# Altium integrated library Motorola Wideband Amplifier.IntLib: 2 symbols
Pins are listed as number, name and electrical type; pins without a type are passive.

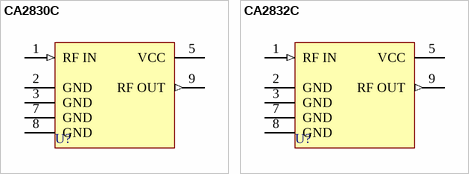
[diagram p0: symbols CA2830C to CA2832C]

## CA2830C
designator U?
Wideband Linear Amplifier; Note: Pins 4 and 6 are absent; Published: 28-Feb-2003; DatasheetVersion: 1997, Rev. 1; PackageVersion: 1994; PackageReference: 714F-03; Publisher: Altium Limited; PackageDescription: Rectangular Flange Mount, Thru-Hole; 9 Leads (2 Absent); Pitch 2.54 mm; ComponentLink1Description: Manufacturer Link; ComponentLink1URL: http://www.freescale.com/webapp/sps/site/homepage.jsp?nodeId=014359
footprint 714F-03 (Rectangular Flange Mount, Thru-Hole; 9 Leads (2 Absent); Pitch 2.54 mm)
pins: 1 RF IN (in), 2 GND (power), 3 GND (power), 5 VCC (power), 7 GND (power), 8 GND (power), 9 RF OUT (out)

## CA2832C
designator U?
Wideband Linear Amplifier; Note: Pins 4 and 6 are absent; Published: 28-Feb-2003; DatasheetVersion: 1994; PackageVersion: 1994; PackageReference: 714F-03; Publisher: Altium Limited; PackageDescription: Rectangular Flange Mount, Thru-Hole; 9 Leads (2 Absent); Pitch 2.54 mm; ComponentLink1Description: Manufacturer Link; ComponentLink1URL: http://www.freescale.com/webapp/sps/site/homepage.jsp?nodeId=014359
footprint 714F-03 (Rectangular Flange Mount, Thru-Hole; 9 Leads (2 Absent); Pitch 2.54 mm)
pins: 1 RF IN (in), 2 GND (power), 3 GND (power), 5 VCC (power), 7 GND (power), 8 GND (power), 9 RF OUT (out)